# Altium integrated library Analog Devices Data Converters Digital-to-Analog Converters.IntLib: 2231 symbols (part 119 of 181)
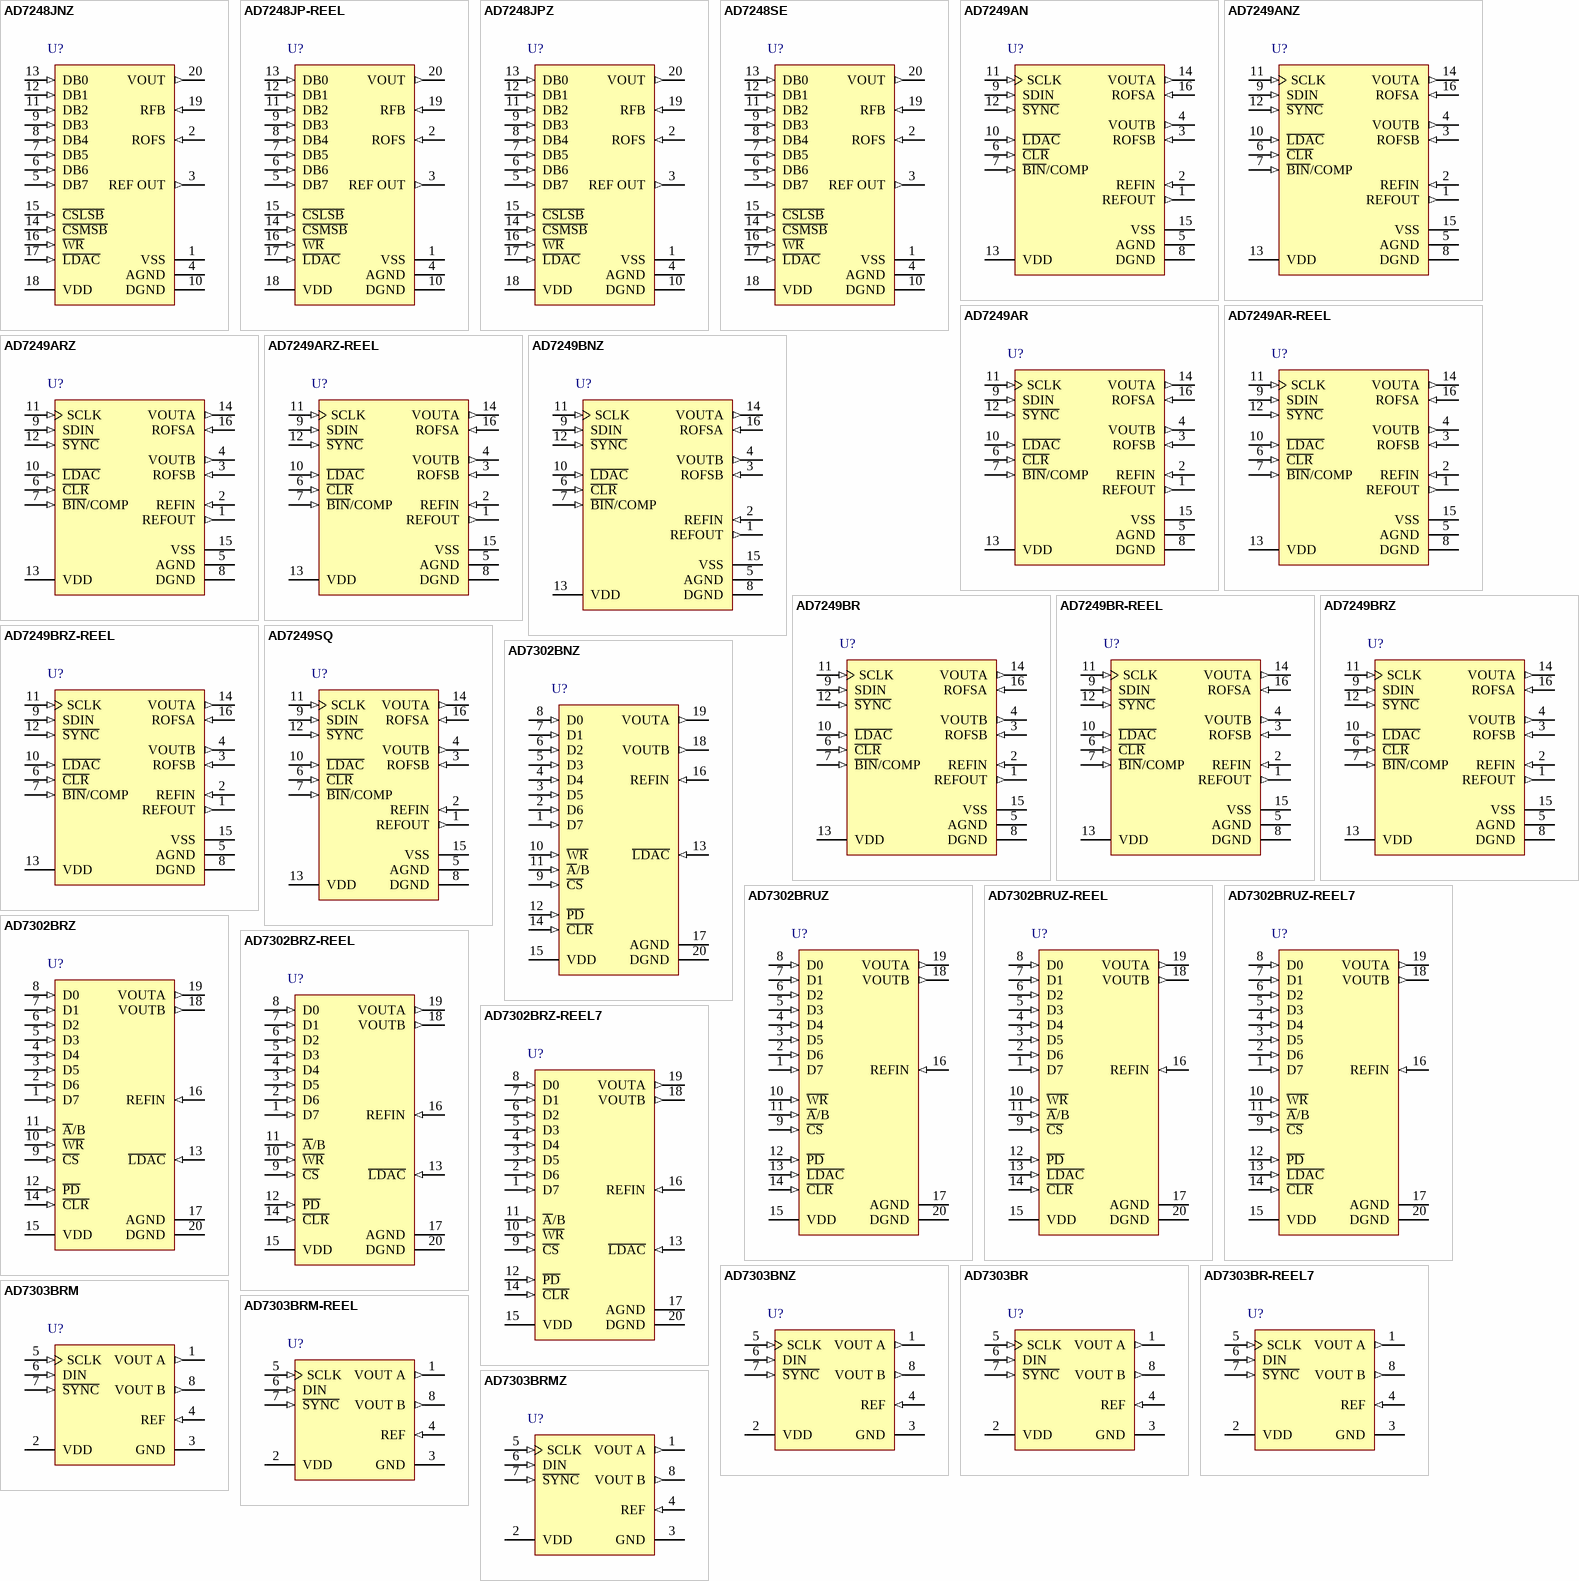
[diagram p232: symbols AD7248JNZ to AD7303BRMZ]

## AD7249BR-REEL
designator U?
Dual 12-Bit LC2MOS DACPORT, -40 to +85 degC, RW-16, Reel; Generic Part Number: AD7249; Manufacturer: Analog Devices; PartNumber: AD7249BR-REEL; # DAC Outputs: 2; Max V+: 16.5V; Op Pwr Diss: 300mW; Resolution (Bits): 12; Settling Time: 7µs; Single Supply: Yes; DatasheetVersion: Rev.C; PackageVersion: 032707-B; PackageReference: RW-16; PackageDescription: 16-Lead Standard Small Outline Package [SOIC_W]; Supplier 1: Digi-Key; Supplier Part Number 1: AD7249BR-REEL-ND; Supplier 2: Newark; Supplier Part Number 2: 09B5623; Supplier 3: Mouser; Supplier Part Number 3: 584-AD7249BR-R; Packing: Reel; RoHS: N; Mounting Technology: Surface Mount; Code_JEDEC: MS-013-AA; Code_IPC: SOIC127P1030-16; ComponentLink1Description: Manufacturer URL; ComponentLink1URL: http://www.analog.com/en/index.html; ComponentLink2Description: Datasheet; ComponentLink2URL: http://www.analog.com/static/imported-files/data_sheets/AD7249.pdf; ComponentLink3Description: Package Specification; ComponentLink3URL: http://www.analog.com/static/imported-files/packages/PKG_PDF/SOIC_WIDE%20%28RW%29/RW_16.pdf; ComponentLink4Description: Product URL; ComponentLink4URL: http://www.analog.com/en/digital-to-analog-converters/da-converters/ad7249/products/product.html
footprint RW-16_N (SOIC, 16-Leads, Body 10.3x7.5mm, Pitch 1.27mm, IPC Medium Density)
footprint RW-16_L (SOIC, 16-Leads, Body 10.3x7.5mm, Pitch 1.27mm, IPC High Density)
footprint RW-16_M (SOIC, 16-Leads, Body 10.3x7.5mm, Pitch 1.27mm, IPC Low Density)
pins: 1 REFOUT (out) "Voltage Reference Output. The internal 5 V analog reference is provided at this pin. To operate the part using its internal reference, REFOUT should be connected to REFIN.", 2 REFIN (in) "Voltage Reference Input. It is internally buffered before being applied to both DACs. The nominal reference voltage for specified operation of the AD7249 is 5 V.", 3 ROFSB (in) "Output Offset Resistor for the amplifier of DAC B. It is connected to VOUTB for the +5 V range, to AGND for the +10 V range and to REFIN for the -5 V to +5 V range.", 4 VOUTB (out) "Analog Output Voltage of DAC B. This is the buffer amplifier output voltage. Three different output voltage ranges can be chosen: 0 V to +5 V, 0 V to +10 V and -5 V to +5 V.", 5 AGND (power) "Analog Ground. Ground reference for all analog circuitry.", 6 ~{CLR} (in) "Clear, Logic Input. Taking this input low clears both DACs. It sets VOUTA and VOUTB to 0 V in both unipolar ranges and the twos complement bipolar range and to -REFIN in the offset binary bipolar range.", 7 ~{BIN}/COMP (in) "Logic Input. This input selects the data format to be either binary or twos complement. In both unipolar ranges natural binary format is selected by connecting this input to a Logic "0". In the bipolar configuration offset (See Datasheet)", 8 DGND (power) "Digital Ground. Ground reference for all digital circuitry", 9 SDIN (in) "Serial Data In, Logic Input. The 16-bit serial data word is applied to this input.", 10 ~{LDAC} (in) "Load DAC, Logic Input. Updates both DAC outputs. The DAC outputs are updated on the falling edge of this signal or alternatively if this line is permanently low, an automatic update mode is selected whereby both DACs are (See Datasheet)", 11 SCLK (in) "Serial Clock, Logic Input. Data is clocked into the input register on each falling SCLK edge.", 12 ~{SYNC} (in) "Data Synchronization Pulse, Logic Input. Taking this input low initializes the internal logic in readiness for a new data word.", 13 VDD (power) "Positive Power Supply", 14 VOUTA (out) "Analog Output Voltage of DAC A. This is the buffer amplifier output voltage. Three different output voltage ranges can be chosen: 0 V to +5 V, 0 V to +10 V and -5 V to +5 V", 15 VSS (power) "Negative Power Supply (used for the output amplifier only) may be connected to 0 V for single supply operation or -12 V to -15 V for dual supplies.", 16 ROFSA (in) "Output Offset Resistor for the amplifier of DAC A. It is connected to VOUTA for the +5 V range, to AGND for the +10 V range and to REFIN for the -5 V to +5 V range."

## AD7249BRZ
designator U?
Dual 12-Bit LC2MOS DACPORT, -40 to +85 degC, RW-16, Pb-Free, Tube; Generic Part Number: AD7249; Manufacturer: Analog Devices; PartNumber: AD7249BRZ; # DAC Outputs: 2; Max V+: 16.5V; Op Pwr Diss: 300mW; Resolution (Bits): 12; Settling Time: 7µs; Single Supply: Yes; DatasheetVersion: Rev.C; PackageVersion: 032707-B; PackageReference: RW-16; PackageDescription: 16-Lead Standard Small Outline Package [SOIC_W]; Supplier 1: Digi-Key; Supplier Part Number 1: AD7249BRZ-ND; Supplier 2: Newark; Supplier Part Number 2: 59K4643; Supplier 3: Mouser; Supplier Part Number 3: 584-AD7249BRZ; Packing: Tube; RoHS: Y; Mounting Technology: Surface Mount; Code_JEDEC: MS-013-AA; Code_IPC: SOIC127P1030-16; ComponentLink1Description: Manufacturer URL; ComponentLink1URL: http://www.analog.com/en/index.html; ComponentLink2Description: Datasheet; ComponentLink2URL: http://www.analog.com/static/imported-files/data_sheets/AD7249.pdf; ComponentLink3Description: Package Specification; ComponentLink3URL: http://www.analog.com/static/imported-files/packages/PKG_PDF/SOIC_WIDE%20%28RW%29/RW_16.pdf; ComponentLink4Description: Product URL; ComponentLink4URL: http://www.analog.com/en/digital-to-analog-converters/da-converters/ad7249/products/product.html
footprint RW-16_N (SOIC, 16-Leads, Body 10.3x7.5mm, Pitch 1.27mm, IPC Medium Density)
footprint RW-16_L (SOIC, 16-Leads, Body 10.3x7.5mm, Pitch 1.27mm, IPC High Density)
footprint RW-16_M (SOIC, 16-Leads, Body 10.3x7.5mm, Pitch 1.27mm, IPC Low Density)
pins: 1 REFOUT (out) "Voltage Reference Output. The internal 5 V analog reference is provided at this pin. To operate the part using its internal reference, REFOUT should be connected to REFIN.", 2 REFIN (in) "Voltage Reference Input. It is internally buffered before being applied to both DACs. The nominal reference voltage for specified operation of the AD7249 is 5 V.", 3 ROFSB (in) "Output Offset Resistor for the amplifier of DAC B. It is connected to VOUTB for the +5 V range, to AGND for the +10 V range and to REFIN for the -5 V to +5 V range.", 4 VOUTB (out) "Analog Output Voltage of DAC B. This is the buffer amplifier output voltage. Three different output voltage ranges can be chosen: 0 V to +5 V, 0 V to +10 V and -5 V to +5 V.", 5 AGND (power) "Analog Ground. Ground reference for all analog circuitry.", 6 ~{CLR} (in) "Clear, Logic Input. Taking this input low clears both DACs. It sets VOUTA and VOUTB to 0 V in both unipolar ranges and the twos complement bipolar range and to -REFIN in the offset binary bipolar range.", 7 ~{BIN}/COMP (in) "Logic Input. This input selects the data format to be either binary or twos complement. In both unipolar ranges natural binary format is selected by connecting this input to a Logic "0". In the bipolar configuration offset (See Datasheet)", 8 DGND (power) "Digital Ground. Ground reference for all digital circuitry", 9 SDIN (in) "Serial Data In, Logic Input. The 16-bit serial data word is applied to this input.", 10 ~{LDAC} (in) "Load DAC, Logic Input. Updates both DAC outputs. The DAC outputs are updated on the falling edge of this signal or alternatively if this line is permanently low, an automatic update mode is selected whereby both DACs are (See Datasheet)", 11 SCLK (in) "Serial Clock, Logic Input. Data is clocked into the input register on each falling SCLK edge.", 12 ~{SYNC} (in) "Data Synchronization Pulse, Logic Input. Taking this input low initializes the internal logic in readiness for a new data word.", 13 VDD (power) "Positive Power Supply", 14 VOUTA (out) "Analog Output Voltage of DAC A. This is the buffer amplifier output voltage. Three different output voltage ranges can be chosen: 0 V to +5 V, 0 V to +10 V and -5 V to +5 V", 15 VSS (power) "Negative Power Supply (used for the output amplifier only) may be connected to 0 V for single supply operation or -12 V to -15 V for dual supplies.", 16 ROFSA (in) "Output Offset Resistor for the amplifier of DAC A. It is connected to VOUTA for the +5 V range, to AGND for the +10 V range and to REFIN for the -5 V to +5 V range."

## AD7249BRZ-REEL
designator U?
Dual 12-Bit LC2MOS DACPORT, -40 to +85 degC, RW-16, Pb-Free, Reel; Generic Part Number: AD7249; Manufacturer: Analog Devices; PartNumber: AD7249BRZ-REEL; # DAC Outputs: 2; Max V+: 16.5V; Op Pwr Diss: 300mW; Resolution (Bits): 12; Settling Time: 7µs; Single Supply: Yes; DatasheetVersion: Rev.C; PackageVersion: 032707-B; PackageReference: RW-16; PackageDescription: 16-Lead Standard Small Outline Package [SOIC_W]; Supplier 1: Digi-Key; Supplier Part Number 1: AD7249BRZ-REEL-ND; Supplier 2: Newark; Supplier Part Number 2: 59K4644; Supplier 3: Mouser; Supplier Part Number 3: 584-AD7249BRZ-R; Packing: Reel; RoHS: Y; Mounting Technology: Surface Mount; Code_JEDEC: MS-013-AA; Code_IPC: SOIC127P1030-16; ComponentLink1Description: Manufacturer URL; ComponentLink1URL: http://www.analog.com/en/index.html; ComponentLink2Description: Datasheet; ComponentLink2URL: http://www.analog.com/static/imported-files/data_sheets/AD7249.pdf; ComponentLink3Description: Package Specification; ComponentLink3URL: http://www.analog.com/static/imported-files/packages/PKG_PDF/SOIC_WIDE%20%28RW%29/RW_16.pdf; ComponentLink4Description: Product URL; ComponentLink4URL: http://www.analog.com/en/digital-to-analog-converters/da-converters/ad7249/products/product.html
footprint RW-16_N (SOIC, 16-Leads, Body 10.3x7.5mm, Pitch 1.27mm, IPC Medium Density)
footprint RW-16_L (SOIC, 16-Leads, Body 10.3x7.5mm, Pitch 1.27mm, IPC High Density)
footprint RW-16_M (SOIC, 16-Leads, Body 10.3x7.5mm, Pitch 1.27mm, IPC Low Density)
pins: 1 REFOUT (out) "Voltage Reference Output. The internal 5 V analog reference is provided at this pin. To operate the part using its internal reference, REFOUT should be connected to REFIN.", 2 REFIN (in) "Voltage Reference Input. It is internally buffered before being applied to both DACs. The nominal reference voltage for specified operation of the AD7249 is 5 V.", 3 ROFSB (in) "Output Offset Resistor for the amplifier of DAC B. It is connected to VOUTB for the +5 V range, to AGND for the +10 V range and to REFIN for the -5 V to +5 V range.", 4 VOUTB (out) "Analog Output Voltage of DAC B. This is the buffer amplifier output voltage. Three different output voltage ranges can be chosen: 0 V to +5 V, 0 V to +10 V and -5 V to +5 V.", 5 AGND (power) "Analog Ground. Ground reference for all analog circuitry.", 6 ~{CLR} (in) "Clear, Logic Input. Taking this input low clears both DACs. It sets VOUTA and VOUTB to 0 V in both unipolar ranges and the twos complement bipolar range and to -REFIN in the offset binary bipolar range.", 7 ~{BIN}/COMP (in) "Logic Input. This input selects the data format to be either binary or twos complement. In both unipolar ranges natural binary format is selected by connecting this input to a Logic "0". In the bipolar configuration offset (See Datasheet)", 8 DGND (power) "Digital Ground. Ground reference for all digital circuitry", 9 SDIN (in) "Serial Data In, Logic Input. The 16-bit serial data word is applied to this input.", 10 ~{LDAC} (in) "Load DAC, Logic Input. Updates both DAC outputs. The DAC outputs are updated on the falling edge of this signal or alternatively if this line is permanently low, an automatic update mode is selected whereby both DACs are (See Datasheet)", 11 SCLK (in) "Serial Clock, Logic Input. Data is clocked into the input register on each falling SCLK edge.", 12 ~{SYNC} (in) "Data Synchronization Pulse, Logic Input. Taking this input low initializes the internal logic in readiness for a new data word.", 13 VDD (power) "Positive Power Supply", 14 VOUTA (out) "Analog Output Voltage of DAC A. This is the buffer amplifier output voltage. Three different output voltage ranges can be chosen: 0 V to +5 V, 0 V to +10 V and -5 V to +5 V", 15 VSS (power) "Negative Power Supply (used for the output amplifier only) may be connected to 0 V for single supply operation or -12 V to -15 V for dual supplies.", 16 ROFSA (in) "Output Offset Resistor for the amplifier of DAC A. It is connected to VOUTA for the +5 V range, to AGND for the +10 V range and to REFIN for the -5 V to +5 V range."

## AD7249SQ
designator U?
Dual 12-Bit LC2MOS DACPORT, -55 to +125 degC, Q-16, Tube; Generic Part Number: AD7249; Manufacturer: Analog Devices; PartNumber: AD7249SQ; # DAC Outputs: 2; Max V+: 16.5V; Op Pwr Diss: 300mW; Resolution (Bits): 12; Settling Time: 7µs; Single Supply: Yes; DatasheetVersion: Rev.C; PackageVersion: 1996; PackageReference: Q-16; PackageDescription: DIP, 16-Pin, Skinny Dual In-line Package, 300mil Wide, Pitch 2.54 mm; Supplier 1: Digi-Key; Supplier Part Number 1: AD7249SQ-ND; Supplier 2: Mouser; Supplier Part Number 2: 584-AD7249SQ; Packing: Tube; RoHS: N; Mounting Technology: Through Hole; ComponentLink1Description: Manufacturer URL; ComponentLink1URL: http://www.analog.com/en/index.html; ComponentLink2Description: Datasheet; ComponentLink2URL: http://www.analog.com/static/imported-files/data_sheets/AD7249.pdf; ComponentLink3Description: Package Specification; ComponentLink3URL: http://www.analog.com/static/imported-files/packages/54083157002221Q_16.pdf; ComponentLink4Description: Product URL; ComponentLink4URL: http://www.analog.com/en/digital-to-analog-converters/da-converters/ad7249/products/product.html
footprint Q-16 (DIP, 16-Leads, Row Spacing 7.62mm, Pitch 2.54mm, Body 20.07x6.73mm)
pins: 1 REFOUT (out) "Voltage Reference Output. The internal 5 V analog reference is provided at this pin. To operate the part using its internal reference, REFOUT should be connected to REFIN.", 2 REFIN (in) "Voltage Reference Input. It is internally buffered before being applied to both DACs. The nominal reference voltage for specified operation of the AD7249 is 5 V.", 3 ROFSB (in) "Output Offset Resistor for the amplifier of DAC B. It is connected to VOUTB for the +5 V range, to AGND for the +10 V range and to REFIN for the -5 V to +5 V range.", 4 VOUTB (out) "Analog Output Voltage of DAC B. This is the buffer amplifier output voltage. Three different output voltage ranges can be chosen: 0 V to +5 V, 0 V to +10 V and -5 V to +5 V.", 5 AGND (power) "Analog Ground. Ground reference for all analog circuitry.", 6 ~{CLR} (in) "Clear, Logic Input. Taking this input low clears both DACs. It sets VOUTA and VOUTB to 0 V in both unipolar ranges and the twos complement bipolar range and to -REFIN in the offset binary bipolar range.", 7 ~{BIN}/COMP (in) "Logic Input. This input selects the data format to be either binary or twos complement. In both unipolar ranges natural binary format is selected by connecting this input to a Logic “0”. In the bipolar configuration offset (See Datasheet)", 8 DGND (power) "Digital Ground. Ground reference for all digital circuitry", 9 SDIN (in) "Serial Data In, Logic Input. The 16-bit serial data word is applied to this input.", 10 ~{LDAC} (in) "Load DAC, Logic Input. Updates both DAC outputs. The DAC outputs are updated on the falling edge of this signal or alternatively if this line is permanently low, an automatic update mode is selected whereby both DACs are (See Datasheet)", 11 SCLK (in) "Serial Clock, Logic Input. Data is clocked into the input register on each falling SCLK edge.", 12 ~{SYNC} (in) "Data Synchronization Pulse, Logic Input. Taking this input low initializes the internal logic in readiness for a new data word.", 13 VDD (power) "Positive Power Supply", 14 VOUTA (out) "Analog Output Voltage of DAC A. This is the buffer amplifier output voltage. Three different output voltage ranges can be chosen: 0 V to +5 V, 0 V to +10 V and -5 V to +5 V", 15 VSS (power) "Negative Power Supply (used for the output amplifier only) may be connected to 0 V for single supply operation or -12 V to -15 V for dual supplies.", 16 ROFSA (in) "Output Offset Resistor for the amplifier of DAC A. It is connected to VOUTA for the +5 V range, to AGND for the +10 V range and to REFIN for the -5 V to +5 V range."

## AD7302BNZ
designator U?
Dual 8-Bit Voltage Output Digital-to-Analog Converter with Parallel Interface, 2.7 to 5.5 V, -40 to +105 degC, N-20, Pb-Free, Tube; Generic Part Number: AD7302; Manufacturer: Analog Devices; PartNumber: AD7302BNZ; # DAC Outputs: 2; Max V+: 5.5V; Op Pwr Diss: 24.8mW; Resolution (Bits): 8; Settling Time: 1.2µs; Single Supply: Yes; DatasheetVersion: Rev.0; PackageVersion: 070706-A; PackageReference: N-20; PackageDescription: 20-Lead Plastic Dual In-Line Package [PDIP] Narrow Body; Supplier 1: Digi-Key; Supplier Part Number 1: AD7302BNZ-ND; Supplier 2: Farnell; Supplier Part Number 2: 1079330; Supplier 3: Newark; Supplier Part Number 3: 19M0853; Supplier 4: Mouser; Supplier Part Number 4: 584-AD7302BNZ; Packing: Tube; RoHS: Y; Mounting Technology: Through Hole; Code_JEDEC: MS-001; ComponentLink1Description: Manufacturer URL; ComponentLink1URL: http://www.analog.com/en/index.html; ComponentLink2Description: Datasheet; ComponentLink2URL: http://www.analog.com/static/imported-files/data_sheets/AD7302.pdf; ComponentLink3Description: Package Specification; ComponentLink3URL: http://www.analog.com/static/imported-files/packages/50601349676519N_20.pdf; ComponentLink4Description: Product URL; ComponentLink4URL: http://www.analog.com/en/digital-to-analog-converters/da-converters/ad7302/products/product.html
footprint N-20 (DIP, 20-Leads, Row Spacing 7.62mm, Pitch 2.54mm, Body 25.9x6.6mm)
pins: 1 D7 (in) "Parallel Data Inputs. Eight-bit data is loaded to the input register of the AD7302 under the control of C\S\ and W\R\.", 2 D6 (in) "Parallel Data Inputs. Eight-bit data is loaded to the input register of the AD7302 under the control of C\S\ and W\R\.", 3 D5 (in) "Parallel Data Inputs. Eight-bit data is loaded to the input register of the AD7302 under the control of C\S\ and W\R\.", 4 D4 (in) "Parallel Data Inputs. Eight-bit data is loaded to the input register of the AD7302 under the control of C\S\ and W\R\.", 5 D3 (in) "Parallel Data Inputs. Eight-bit data is loaded to the input register of the AD7302 under the control of C\S\ and W\R\.", 6 D2 (in) "Parallel Data Inputs. Eight-bit data is loaded to the input register of the AD7302 under the control of C\S\ and W\R\.", 7 D1 (in) "Parallel Data Inputs. Eight-bit data is loaded to the input register of the AD7302 under the control of C\S\ and W\R\.", 8 D0 (in) "Parallel Data Inputs. Eight-bit data is loaded to the input register of the AD7302 under the control of C\S\ and W\R\.", 9 ~{CS} (in) "Chip Select. Active low logic input.", 10 ~{WR} (in) "Write Input. W\R\ is an active low logic input used in conjunction with C\S\ and A\/B to write data to the selected DAC register.", 11 ~{A}/B (in) "DAC Select. Address pin used to select writing to either DAC A or DAC B.", 12 ~{PD} (in) "Active low input used to put the part into low power mode reducing current consumption to less than 1 µA.", 13 ~{LDAC} (in) "Load DAC Logic Input. When this logic input is taken low both DAC outputs are simultaneously updated with the contents of their DAC registers. If L\D\A\C\ is permanently tied low, the DACs are updated on the rising edge of (See Datasheet)", 14 ~{CLR} (in) "Asynchronous Clear Input (Active Low). When this input is taken low the DAC registers are loaded with all zeroes and the DAC outputs are cleared to zero volts.", 15 VDD (power) "Power Supply Input. These parts can be operated from 2.7 V to 5.5 V and should be decoupled to AGND.", 16 REFIN (in) "External Reference Input. This can used as the reference for both DACs. The range on this reference input is 1 V to VDD/2. If REFIN is directly tied to VDD the internal VDD/2 reference is selected.", 17 AGND (power) "Analog Ground reference point and return point for all analog current on the part.", 18 VOUTB (out) "Analog output voltage from DAC B. The output amplifier can swing rail to rail on its output.", 19 VOUTA (out) "Analog output voltage from DAC A. The output amplifier can swing rail to rail on its output.", 20 DGND (power) "Digital Ground reference point and return point for all digital current on the part."

## AD7302BRUZ
designator U?
Dual 8-Bit Voltage Output Digital-to-Analog Converter with Parallel Interface, 2.7 to 5.5 V, 0 to +70 degC, RU-20, Pb-Free, Tube; Generic Part Number: AD7302; Manufacturer: Analog Devices; PartNumber: AD7302BRUZ; # DAC Outputs: 2; Max V+: 5.5V; Op Pwr Diss: 24.8mW; Resolution (Bits): 8; Settling Time: 1.2µs; Single Supply: Yes; DatasheetVersion: Rev.0; PackageVersion: 2000; PackageReference: RU-20; PackageDescription: 20-Lead Thin Shrink Small Outline Package [TSSOP]; Supplier 1: Digi-Key; Supplier Part Number 1: AD7302BRUZ-ND; Supplier 2: Farnell; Supplier Part Number 2: 1438403; Supplier 3: Newark; Supplier Part Number 3: 59K4687; Supplier 4: Mouser; Supplier Part Number 4: 584-AD7302BRUZ; Packing: Tube; RoHS: Y; Mounting Technology: Surface Mount; Code_JEDEC: MO-153AC; ComponentLink1Description: Manufacturer URL; ComponentLink1URL: http://www.analog.com/en/index.html; ComponentLink2Description: Datasheet; ComponentLink2URL: http://www.analog.com/static/imported-files/data_sheets/AD7302.pdf; ComponentLink3Description: Package Specification; ComponentLink3URL: http://www.analog.com/static/imported-files/packages/364515793657813558433715854054607941441RU20.pdf; ComponentLink4Description: Product URL; ComponentLink4URL: http://www.analog.com/en/digital-to-analog-converters/da-converters/ad7302/products/product.html
footprint RU-20_N (TSOP, 20-Leads, Body 6.5x4.4mm, Pitch 0.65mm, IPC Medium Density)
footprint RU-20_L (TSOP, 20-Leads, Body 6.5x4.4mm, Pitch 0.65mm, IPC High Density)
footprint RU-20_M (TSOP, 20-Leads, Body 6.5x4.4mm, Pitch 0.65mm, IPC Low Density)
pins: 1 D7 (in) "Parallel Data Inputs. Eight-bit data is loaded to the input register of the AD7302 under the control of C\S\ and W\R\.", 2 D6 (in) "Parallel Data Inputs. Eight-bit data is loaded to the input register of the AD7302 under the control of C\S\ and W\R\.", 3 D5 (in) "Parallel Data Inputs. Eight-bit data is loaded to the input register of the AD7302 under the control of C\S\ and W\R\.", 4 D4 (in) "Parallel Data Inputs. Eight-bit data is loaded to the input register of the AD7302 under the control of C\S\ and W\R\.", 5 D3 (in) "Parallel Data Inputs. Eight-bit data is loaded to the input register of the AD7302 under the control of C\S\ and W\R\.", 6 D2 (in) "Parallel Data Inputs. Eight-bit data is loaded to the input register of the AD7302 under the control of C\S\ and W\R\.", 7 D1 (in) "Parallel Data Inputs. Eight-bit data is loaded to the input register of the AD7302 under the control of C\S\ and W\R\.", 8 D0 (in) "Parallel Data Inputs. Eight-bit data is loaded to the input register of the AD7302 under the control of C\S\ and W\R\.", 9 ~{CS} (in) "Chip Select. Active low logic input.", 10 ~{WR} (in) "Write Input. W\R\ is an active low logic input used in conjunction with C\S\ and A\/B to write data to the selected DAC register.", 11 ~{A}/B (in) "DAC Select. Address pin used to select writing to either DAC A or DAC B.", 12 ~{PD} (in) "Active low input used to put the part into low power mode reducing current consumption to less than 1 µA.", 13 ~{LDAC} (in) "Load DAC Logic Input. When this logic input is taken low both DAC outputs are simultaneously updated with the contents of their DAC registers. If L\D\A\C\ is permanently tied low, the DACs are updated on the rising edge of (See Datasheet)", 14 ~{CLR} (in) "Asynchronous Clear Input (Active Low). When this input is taken low the DAC registers are loaded with all zeroes and the DAC outputs are cleared to zero volts.", 15 VDD (power) "Power Supply Input. These parts can be operated from 2.7 V to 5.5 V and should be decoupled to AGND.", 16 REFIN (in) "External Reference Input. This can used as the reference for both DACs. The range on this reference input is 1 V to VDD/2. If REFIN is directly tied to VDD the internal VDD/2 reference is selected.", 17 AGND (power) "Analog Ground reference point and return point for all analog current on the part.", 18 VOUTB (out) "Analog output voltage from DAC B. The output amplifier can swing rail to rail on its output.", 19 VOUTA (out) "Analog output voltage from DAC A. The output amplifier can swing rail to rail on its output.", 20 DGND (power) "Digital Ground reference point and return point for all digital current on the part."

## AD7302BRUZ-REEL
designator U?
Dual 8-Bit Voltage Output Digital-to-Analog Converter with Parallel Interface, 2.7 to 5.5 V, 0 to 70 degC, RU-20, Pb-Free, Reel; Generic Part Number: AD7302; Manufacturer: Analog Devices; PartNumber: AD7302BRUZ-REEL; # DAC Outputs: 2; Max V+: 5.5V; Op Pwr Diss: 24.8mW; Resolution (Bits): 8; Settling Time: 1.2µs; Single Supply: Yes; DatasheetVersion: Rev.0; PackageVersion: 2000; PackageReference: RU-20; PackageDescription: 20-Lead Thin Shrink Small Outline Package [TSSOP]; Supplier 1: Digi-Key; Supplier Part Number 1: AD7302BRUZ-REEL-ND; Supplier 2: Mouser; Supplier Part Number 2: 584-AD7302BRUZ-R; Packing: Reel; RoHS: Y; Mounting Technology: Surface Mount; Code_JEDEC: MO-153AC; ComponentLink1Description: Manufacturer URL; ComponentLink1URL: http://www.analog.com/en/index.html; ComponentLink2Description: Datasheet; ComponentLink2URL: http://www.analog.com/static/imported-files/data_sheets/AD7302.pdf; ComponentLink3Description: Package Specification; ComponentLink3URL: http://www.analog.com/static/imported-files/packages/364515793657813558433715854054607941441RU20.pdf; ComponentLink4Description: Product URL; ComponentLink4URL: http://www.analog.com/en/digital-to-analog-converters/da-converters/ad7302/products/product.html
footprint RU-20_N (TSOP, 20-Leads, Body 6.5x4.4mm, Pitch 0.65mm, IPC Medium Density)
footprint RU-20_L (TSOP, 20-Leads, Body 6.5x4.4mm, Pitch 0.65mm, IPC High Density)
footprint RU-20_M (TSOP, 20-Leads, Body 6.5x4.4mm, Pitch 0.65mm, IPC Low Density)
pins: 1 D7 (in) "Parallel Data Inputs. Eight-bit data is loaded to the input register of the AD7302 under the control of C\S\ and W\R\.", 2 D6 (in) "Parallel Data Inputs. Eight-bit data is loaded to the input register of the AD7302 under the control of C\S\ and W\R\.", 3 D5 (in) "Parallel Data Inputs. Eight-bit data is loaded to the input register of the AD7302 under the control of C\S\ and W\R\.", 4 D4 (in) "Parallel Data Inputs. Eight-bit data is loaded to the input register of the AD7302 under the control of C\S\ and W\R\.", 5 D3 (in) "Parallel Data Inputs. Eight-bit data is loaded to the input register of the AD7302 under the control of C\S\ and W\R\.", 6 D2 (in) "Parallel Data Inputs. Eight-bit data is loaded to the input register of the AD7302 under the control of C\S\ and W\R\.", 7 D1 (in) "Parallel Data Inputs. Eight-bit data is loaded to the input register of the AD7302 under the control of C\S\ and W\R\.", 8 D0 (in) "Parallel Data Inputs. Eight-bit data is loaded to the input register of the AD7302 under the control of C\S\ and W\R\.", 9 ~{CS} (in) "Chip Select. Active low logic input.", 10 ~{WR} (in) "Write Input. W\R\ is an active low logic input used in conjunction with C\S\ and A\/B to write data to the selected DAC register.", 11 ~{A}/B (in) "DAC Select. Address pin used to select writing to either DAC A or DAC B.", 12 ~{PD} (in) "Active low input used to put the part into low power mode reducing current consumption to less than 1 µA.", 13 ~{LDAC} (in) "Load DAC Logic Input. When this logic input is taken low both DAC outputs are simultaneously updated with the contents of their DAC registers. If L\D\A\C\ is permanently tied low, the DACs are updated on the rising edge of (See Datasheet)", 14 ~{CLR} (in) "Asynchronous Clear Input (Active Low). When this input is taken low the DAC registers are loaded with all zeroes and the DAC outputs are cleared to zero volts.", 15 VDD (power) "Power Supply Input. These parts can be operated from 2.7 V to 5.5 V and should be decoupled to AGND.", 16 REFIN (in) "External Reference Input. This can used as the reference for both DACs. The range on this reference input is 1 V to VDD/2. If REFIN is directly tied to VDD the internal VDD/2 reference is selected.", 17 AGND (power) "Analog Ground reference point and return point for all analog current on the part.", 18 VOUTB (out) "Analog output voltage from DAC B. The output amplifier can swing rail to rail on its output.", 19 VOUTA (out) "Analog output voltage from DAC A. The output amplifier can swing rail to rail on its output.", 20 DGND (power) "Digital Ground reference point and return point for all digital current on the part."

## AD7302BRUZ-REEL7
designator U?
Dual 8-Bit Voltage Output Digital-to-Analog Converter with Parallel Interface, 2.7 to 5.5 V, 0 to 70 degC, RU-20, Pb-Free, Reel; Generic Part Number: AD7302; Manufacturer: Analog Devices; PartNumber: AD7302BRUZ-REEL7; # DAC Outputs: 2; Max V+: 5.5V; Op Pwr Diss: 24.8mW; Resolution (Bits): 8; Settling Time: 1.2µs; Single Supply: Yes; DatasheetVersion: Rev.0; PackageVersion: 2000; PackageReference: RU-20; PackageDescription: 20-Lead Thin Shrink Small Outline Package [TSSOP]; Supplier 1: Digi-Key; Supplier Part Number 1: AD7302BRUZ-REEL7TR-ND; Supplier 2: Digi-Key; Supplier Part Number 2: AD7302BRUZ-REEL7CT-ND; Supplier 3: Digi-Key; Supplier Part Number 3: AD7302BRUZ-REEL7DKR-ND; Supplier 4: Newark; Supplier Part Number 4: 59K4689; Supplier 5: Mouser; Supplier Part Number 5: 584-AD7302BRUZ-R7; Packing: Reel; RoHS: Y; Mounting Technology: Surface Mount; Code_JEDEC: MO-153AC; ComponentLink1Description: Manufacturer URL; ComponentLink1URL: http://www.analog.com/en/index.html; ComponentLink2Description: Datasheet; ComponentLink2URL: http://www.analog.com/static/imported-files/data_sheets/AD7302.pdf; ComponentLink3Description: Package Specification; ComponentLink3URL: http://www.analog.com/static/imported-files/packages/364515793657813558433715854054607941441RU20.pdf; ComponentLink4Description: Product URL; ComponentLink4URL: http://www.analog.com/en/digital-to-analog-converters/da-converters/ad7302/products/product.html
footprint RU-20_N (TSOP, 20-Leads, Body 6.5x4.4mm, Pitch 0.65mm, IPC Medium Density)
footprint RU-20_L (TSOP, 20-Leads, Body 6.5x4.4mm, Pitch 0.65mm, IPC High Density)
footprint RU-20_M (TSOP, 20-Leads, Body 6.5x4.4mm, Pitch 0.65mm, IPC Low Density)
pins: 1 D7 (in) "Parallel Data Inputs. Eight-bit data is loaded to the input register of the AD7302 under the control of C\S\ and W\R\.", 2 D6 (in) "Parallel Data Inputs. Eight-bit data is loaded to the input register of the AD7302 under the control of C\S\ and W\R\.", 3 D5 (in) "Parallel Data Inputs. Eight-bit data is loaded to the input register of the AD7302 under the control of C\S\ and W\R\.", 4 D4 (in) "Parallel Data Inputs. Eight-bit data is loaded to the input register of the AD7302 under the control of C\S\ and W\R\.", 5 D3 (in) "Parallel Data Inputs. Eight-bit data is loaded to the input register of the AD7302 under the control of C\S\ and W\R\.", 6 D2 (in) "Parallel Data Inputs. Eight-bit data is loaded to the input register of the AD7302 under the control of C\S\ and W\R\.", 7 D1 (in) "Parallel Data Inputs. Eight-bit data is loaded to the input register of the AD7302 under the control of C\S\ and W\R\.", 8 D0 (in) "Parallel Data Inputs. Eight-bit data is loaded to the input register of the AD7302 under the control of C\S\ and W\R\.", 9 ~{CS} (in) "Chip Select. Active low logic input.", 10 ~{WR} (in) "Write Input. W\R\ is an active low logic input used in conjunction with C\S\ and A\/B to write data to the selected DAC register.", 11 ~{A}/B (in) "DAC Select. Address pin used to select writing to either DAC A or DAC B.", 12 ~{PD} (in) "Active low input used to put the part into low power mode reducing current consumption to less than 1 µA.", 13 ~{LDAC} (in) "Load DAC Logic Input. When this logic input is taken low both DAC outputs are simultaneously updated with the contents of their DAC registers. If L\D\A\C\ is permanently tied low, the DACs are updated on the rising edge of (See Datasheet)", 14 ~{CLR} (in) "Asynchronous Clear Input (Active Low). When this input is taken low the DAC registers are loaded with all zeroes and the DAC outputs are cleared to zero volts.", 15 VDD (power) "Power Supply Input. These parts can be operated from 2.7 V to 5.5 V and should be decoupled to AGND.", 16 REFIN (in) "External Reference Input. This can used as the reference for both DACs. The range on this reference input is 1 V to VDD/2. If REFIN is directly tied to VDD the internal VDD/2 reference is selected.", 17 AGND (power) "Analog Ground reference point and return point for all analog current on the part.", 18 VOUTB (out) "Analog output voltage from DAC B. The output amplifier can swing rail to rail on its output.", 19 VOUTA (out) "Analog output voltage from DAC A. The output amplifier can swing rail to rail on its output.", 20 DGND (power) "Digital Ground reference point and return point for all digital current on the part."

## AD7302BRZ
designator U?
Dual 8-Bit Voltage Output Digital-to-Analog Converter with Parallel Interface, 2.7 to 5.5 V, 0 to 70 degC, RW-20, Pb-Free, Tube; Generic Part Number: AD7302; Manufacturer: Analog Devices; PartNumber: AD7302BRZ; # DAC Outputs: 2; Max V+: 5.5V; Op Pwr Diss: 24.8mW; Resolution (Bits): 8; Settling Time: 1.2µs; Single Supply: Yes; DatasheetVersion: Rev.0; PackageVersion: 060706-A; PackageReference: RW-20; PackageDescription: 20-Lead Standard Small Outline Package [SOIC_W] Wide Body; Supplier 1: Digi-Key; Supplier Part Number 1: AD7302BRZ-ND; Supplier 2: Newark; Supplier Part Number 2: 59K4690; Supplier 3: Mouser; Supplier Part Number 3: 584-AD7302BRZ; Packing: Tube; RoHS: Y; Mounting Technology: Surface Mount; Code_JEDEC: MS-013-AC; ComponentLink1Description: Manufacturer URL; ComponentLink1URL: http://www.analog.com/en/index.html; ComponentLink2Description: Datasheet; ComponentLink2URL: http://www.analog.com/static/imported-files/data_sheets/AD7302.pdf; ComponentLink3Description: Package Specification; ComponentLink3URL: http://www.analog.com/static/imported-files/packages/233848RW_20.pdf; ComponentLink4Description: Product URL; ComponentLink4URL: http://www.analog.com/en/digital-to-analog-converters/da-converters/ad7302/products/product.html
footprint RW-20_N (SOIC, 20-Leads, Body 12.8x7.5mm, Pitch 1.27mm, IPC Medium Density)
footprint RW-20_L (SOIC, 20-Leads, Body 12.8x7.5mm, Pitch 1.27mm, IPC High Density)
footprint RW-20_M (SOIC, 20-Leads, Body 12.8x7.5mm, Pitch 1.27mm, IPC Low Density)
pins: 1 D7 (in) "Parallel Data Inputs. Eight-bit data is loaded to the input register of the AD7302 under the control of C\S\ and W\R\.", 2 D6 (in) "Parallel Data Inputs. Eight-bit data is loaded to the input register of the AD7302 under the control of C\S\ and W\R\.", 3 D5 (in) "Parallel Data Inputs. Eight-bit data is loaded to the input register of the AD7302 under the control of C\S\ and W\R\.", 4 D4 (in) "Parallel Data Inputs. Eight-bit data is loaded to the input register of the AD7302 under the control of C\S\ and W\R\.", 5 D3 (in) "Parallel Data Inputs. Eight-bit data is loaded to the input register of the AD7302 under the control of C\S\ and W\R\.", 6 D2 (in) "Parallel Data Inputs. Eight-bit data is loaded to the input register of the AD7302 under the control of C\S\ and W\R\.", 7 D1 (in) "Parallel Data Inputs. Eight-bit data is loaded to the input register of the AD7302 under the control of C\S\ and W\R\.", 8 D0 (in) "Parallel Data Inputs. Eight-bit data is loaded to the input register of the AD7302 under the control of C\S\ and W\R\.", 9 ~{CS} (in) "Chip Select. Active low logic input.", 10 ~{WR} (in) "Write Input. W\R\ is an active low logic input used in conjunction with C\S\ and A\/B to write data to the selected DAC register.", 11 ~{A}/B (in) "DAC Select. Address pin used to select writing to either DAC A or DAC B.", 12 ~{PD} (in) "Active low input used to put the part into low power mode reducing current consumption to less than 1 µA.", 13 ~{LDAC} (in) "Load DAC Logic Input. When this logic input is taken low both DAC outputs are simultaneously updated with the contents of their DAC registers. If L\D\A\C\ is permanently tied low, the DACs are updated on the rising edge of (See Datasheet)", 14 ~{CLR} (in) "Asynchronous Clear Input (Active Low). When this input is taken low the DAC registers are loaded with all zeroes and the DAC outputs are cleared to zero volts.", 15 VDD (power) "Power Supply Input. These parts can be operated from 2.7 V to 5.5 V and should be decoupled to AGND.", 16 REFIN (in) "External Reference Input. This can used as the reference for both DACs. The range on this reference input is 1 V to VDD/2. If REFIN is directly tied to VDD the internal VDD/2 reference is selected.", 17 AGND (power) "Analog Ground reference point and return point for all analog current on the part.", 18 VOUTB (out) "Analog output voltage from DAC B. The output amplifier can swing rail to rail on its output.", 19 VOUTA (out) "Analog output voltage from DAC A. The output amplifier can swing rail to rail on its output.", 20 DGND (power) "Digital Ground reference point and return point for all digital current on the part."

## AD7302BRZ-REEL
designator U?
Dual 8-Bit Voltage Output Digital-to-Analog Converter with Parallel Interface, 2.7 to 5.5 V, 0 to 70 degC, RW-20, Pb-Free, Reel; Generic Part Number: AD7302; Manufacturer: Analog Devices; PartNumber: AD7302BRZ-REEL; # DAC Outputs: 2; Max V+: 5.5V; Op Pwr Diss: 24.8mW; Resolution (Bits): 8; Settling Time: 1.2µs; Single Supply: Yes; DatasheetVersion: Rev.0; PackageVersion: 060706-A; PackageReference: RW-20; PackageDescription: 20-Lead Standard Small Outline Package [SOIC_W] Wide Body; Supplier 1: Digi-Key; Supplier Part Number 1: AD7302BRZ-REEL-ND; Supplier 2: Mouser; Supplier Part Number 2: 584-AD7302BRZ-R; Packing: Reel; RoHS: Y; Mounting Technology: Surface Mount; Code_JEDEC: MS-013-AC; ComponentLink1Description: Manufacturer URL; ComponentLink1URL: http://www.analog.com/en/index.html; ComponentLink2Description: Datasheet; ComponentLink2URL: http://www.analog.com/static/imported-files/data_sheets/AD7302.pdf; ComponentLink3Description: Package Specification; ComponentLink3URL: http://www.analog.com/static/imported-files/packages/233848RW_20.pdf; ComponentLink4Description: Product URL; ComponentLink4URL: http://www.analog.com/en/digital-to-analog-converters/da-converters/ad7302/products/product.html
footprint RW-20_N (SOIC, 20-Leads, Body 12.8x7.5mm, Pitch 1.27mm, IPC Medium Density)
footprint RW-20_L (SOIC, 20-Leads, Body 12.8x7.5mm, Pitch 1.27mm, IPC High Density)
footprint RW-20_M (SOIC, 20-Leads, Body 12.8x7.5mm, Pitch 1.27mm, IPC Low Density)
pins: 1 D7 (in) "Parallel Data Inputs. Eight-bit data is loaded to the input register of the AD7302 under the control of C\S\ and W\R\.", 2 D6 (in) "Parallel Data Inputs. Eight-bit data is loaded to the input register of the AD7302 under the control of C\S\ and W\R\.", 3 D5 (in) "Parallel Data Inputs. Eight-bit data is loaded to the input register of the AD7302 under the control of C\S\ and W\R\.", 4 D4 (in) "Parallel Data Inputs. Eight-bit data is loaded to the input register of the AD7302 under the control of C\S\ and W\R\.", 5 D3 (in) "Parallel Data Inputs. Eight-bit data is loaded to the input register of the AD7302 under the control of C\S\ and W\R\.", 6 D2 (in) "Parallel Data Inputs. Eight-bit data is loaded to the input register of the AD7302 under the control of C\S\ and W\R\.", 7 D1 (in) "Parallel Data Inputs. Eight-bit data is loaded to the input register of the AD7302 under the control of C\S\ and W\R\.", 8 D0 (in) "Parallel Data Inputs. Eight-bit data is loaded to the input register of the AD7302 under the control of C\S\ and W\R\.", 9 ~{CS} (in) "Chip Select. Active low logic input.", 10 ~{WR} (in) "Write Input. W\R\ is an active low logic input used in conjunction with C\S\ and A\/B to write data to the selected DAC register.", 11 ~{A}/B (in) "DAC Select. Address pin used to select writing to either DAC A or DAC B.", 12 ~{PD} (in) "Active low input used to put the part into low power mode reducing current consumption to less than 1 µA.", 13 ~{LDAC} (in) "Load DAC Logic Input. When this logic input is taken low both DAC outputs are simultaneously updated with the contents of their DAC registers. If L\D\A\C\ is permanently tied low, the DACs are updated on the rising edge of (See Datasheet)", 14 ~{CLR} (in) "Asynchronous Clear Input (Active Low). When this input is taken low the DAC registers are loaded with all zeroes and the DAC outputs are cleared to zero volts.", 15 VDD (power) "Power Supply Input. These parts can be operated from 2.7 V to 5.5 V and should be decoupled to AGND.", 16 REFIN (in) "External Reference Input. This can used as the reference for both DACs. The range on this reference input is 1 V to VDD/2. If REFIN is directly tied to VDD the internal VDD/2 reference is selected.", 17 AGND (power) "Analog Ground reference point and return point for all analog current on the part.", 18 VOUTB (out) "Analog output voltage from DAC B. The output amplifier can swing rail to rail on its output.", 19 VOUTA (out) "Analog output voltage from DAC A. The output amplifier can swing rail to rail on its output.", 20 DGND (power) "Digital Ground reference point and return point for all digital current on the part."

## AD7302BRZ-REEL7
designator U?
Dual 8-Bit Voltage Output Digital-to-Analog Converter with Parallel Interface, 2.7 to 5.5 V, 0 to 70 degC, RW-20, Pb-Free, Reel; Generic Part Number: AD7302; Manufacturer: Analog Devices; PartNumber: AD7302BRZ-REEL7; # DAC Outputs: 2; Max V+: 5.5V; Op Pwr Diss: 24.8mW; Resolution (Bits): 8; Settling Time: 1.2µs; Single Supply: Yes; DatasheetVersion: Rev.0; PackageVersion: 060706-A; PackageReference: RW-20; PackageDescription: 20-Lead Standard Small Outline Package [SOIC_W] Wide Body; Supplier 1: Digi-Key; Supplier Part Number 1: AD7302BRZ-REEL7TR-ND; Supplier 2: Digi-Key; Supplier Part Number 2: AD7302BRZ-REEL7CT-ND; Supplier 3: Digi-Key; Supplier Part Number 3: AD7302BRZ-REEL7DKR-ND; Supplier 4: Mouser; Supplier Part Number 4: 584-AD7302BRZ-R7; Packing: Reel; RoHS: Y; Mounting Technology: Surface Mount; Code_JEDEC: MS-013-AC; ComponentLink1Description: Manufacturer URL; ComponentLink1URL: http://www.analog.com/en/index.html; ComponentLink2Description: Datasheet; ComponentLink2URL: http://www.analog.com/static/imported-files/data_sheets/AD7302.pdf; ComponentLink3Description: Package Specification; ComponentLink3URL: http://www.analog.com/static/imported-files/packages/233848RW_20.pdf; ComponentLink4Description: Product URL; ComponentLink4URL: http://www.analog.com/en/digital-to-analog-converters/da-converters/ad7302/products/product.html
footprint RW-20_N (SOIC, 20-Leads, Body 12.8x7.5mm, Pitch 1.27mm, IPC Medium Density)
footprint RW-20_L (SOIC, 20-Leads, Body 12.8x7.5mm, Pitch 1.27mm, IPC High Density)
footprint RW-20_M (SOIC, 20-Leads, Body 12.8x7.5mm, Pitch 1.27mm, IPC Low Density)
pins: 1 D7 (in) "Parallel Data Inputs. Eight-bit data is loaded to the input register of the AD7302 under the control of C\S\ and W\R\.", 2 D6 (in) "Parallel Data Inputs. Eight-bit data is loaded to the input register of the AD7302 under the control of C\S\ and W\R\.", 3 D5 (in) "Parallel Data Inputs. Eight-bit data is loaded to the input register of the AD7302 under the control of C\S\ and W\R\.", 4 D4 (in) "Parallel Data Inputs. Eight-bit data is loaded to the input register of the AD7302 under the control of C\S\ and W\R\.", 5 D3 (in) "Parallel Data Inputs. Eight-bit data is loaded to the input register of the AD7302 under the control of C\S\ and W\R\.", 6 D2 (in) "Parallel Data Inputs. Eight-bit data is loaded to the input register of the AD7302 under the control of C\S\ and W\R\.", 7 D1 (in) "Parallel Data Inputs. Eight-bit data is loaded to the input register of the AD7302 under the control of C\S\ and W\R\.", 8 D0 (in) "Parallel Data Inputs. Eight-bit data is loaded to the input register of the AD7302 under the control of C\S\ and W\R\.", 9 ~{CS} (in) "Chip Select. Active low logic input.", 10 ~{WR} (in) "Write Input. W\R\ is an active low logic input used in conjunction with C\S\ and A\/B to write data to the selected DAC register.", 11 ~{A}/B (in) "DAC Select. Address pin used to select writing to either DAC A or DAC B.", 12 ~{PD} (in) "Active low input used to put the part into low power mode reducing current consumption to less than 1 µA.", 13 ~{LDAC} (in) "Load DAC Logic Input. When this logic input is taken low both DAC outputs are simultaneously updated with the contents of their DAC registers. If L\D\A\C\ is permanently tied low, the DACs are updated on the rising edge of (See Datasheet)", 14 ~{CLR} (in) "Asynchronous Clear Input (Active Low). When this input is taken low the DAC registers are loaded with all zeroes and the DAC outputs are cleared to zero volts.", 15 VDD (power) "Power Supply Input. These parts can be operated from 2.7 V to 5.5 V and should be decoupled to AGND.", 16 REFIN (in) "External Reference Input. This can used as the reference for both DACs. The range on this reference input is 1 V to VDD/2. If REFIN is directly tied to VDD the internal VDD/2 reference is selected.", 17 AGND (power) "Analog Ground reference point and return point for all analog current on the part.", 18 VOUTB (out) "Analog output voltage from DAC B. The output amplifier can swing rail to rail on its output.", 19 VOUTA (out) "Analog output voltage from DAC A. The output amplifier can swing rail to rail on its output.", 20 DGND (power) "Digital Ground reference point and return point for all digital current on the part."

## AD7303BNZ
designator U?
Dual 8-Bit Voltage Output Digital-to-Analog Converter with Serial Interface, 2.7 to 5.5 V, 0 to +70 degC, N-8, Pb-Free, Tube; Generic Part Number: AD7303; Manufacturer: Analog Devices; PartNumber: AD7303BNZ; # DAC Outputs: 2; Max V+: 5.5V; Op Pwr Diss: 6.93mW; Resolution (Bits): 8; Settling Time: 1.2µs; Single Supply: Yes; DatasheetVersion: Rev.0; PackageVersion: 070606-A; PackageReference: N-8; PackageDescription: 8-Lead Plastic Dual In-Line Package [PDIP] Narrow Body; Supplier 1: Digi-Key; Supplier Part Number 1: AD7303BNZ-ND; Supplier 2: Farnell; Supplier Part Number 2: 1079413; Supplier 3: Newark; Supplier Part Number 3: 31M4235; Supplier 4: Newark; Supplier Part Number 4: 19M0854; Supplier 5: Mouser; Supplier Part Number 5: 584-AD7303BNZ; Packing: Tube; RoHS: Y; Mounting Technology: Through Hole; Code_JEDEC: MS-001; ComponentLink1Description: Manufacturer URL; ComponentLink1URL: http://www.analog.com/en/index.html; ComponentLink2Description: Datasheet; ComponentLink2URL: http://www.analog.com/static/imported-files/data_sheets/AD7303.pdf; ComponentLink3Description: Package Specification; ComponentLink3URL: http://www.analog.com/static/imported-files/packages/PKG_PDF/PDIP(N)/N_8.pdf; ComponentLink4Description: Product URL; ComponentLink4URL: http://www.analog.com/en/digital-to-analog-converters/da-converters/ad7303/products/product.html
footprint N-8 (DIP, 8-Leads, Row Spacing 7.62mm, Pitch 2.54mm, Body 9.6x6.6mm)
pins: 1 VOUT A (out) "Analog Output Voltage from DAC A. The output amplifier swings rail to rail on its output.", 2 VDD (power) "Power Supply Input. These parts can be operated from +2.7 V to +5.5 V and should be decoupled to GND.", 3 GND (power) "Ground reference point for all circuitry on the part.", 4 REF (in) "External Reference Input. This can be used as the reference for both DACs, and is selected by setting the I\N\T\/EXT bit in the control register to a logic one. The range on this reference input is 1 V to VDD/2. When the (See Datasheet)", 5 SCLK (in) "Serial Clock. Logic Input. Data is clocked into the input shift register on the rising edge of the serial clock input. Data can be transferred at rates up to 30 MHz.", 6 DIN (in) "Serial Data Input. This device has a 16-bit shift register, 8 bits for data and 8 bits for control. Data is clocked into the register on the rising edge of the clock input.", 7 ~{SYNC} (in) "Level Triggered Control Input (active low). This is the frame synchronization signal for the input data. When S\Y\N\C\ goes low, it enables the input shift register and data is transferred in on the rising edges of the (See Datasheet)", 8 VOUT B (out) "Analog output voltage from DAC B. The output amplifier swings rail to rail on its output."